# Altium schematic symbol library FD6288Q.SCHLIB: 1 symbol
Pins are listed as number, name and electrical type; pins without a type are passive.

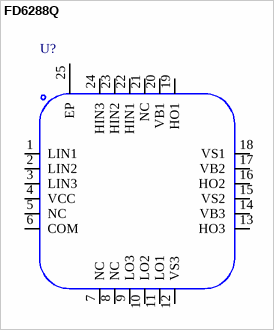
[diagram p0: symbol FD6288Q]

## FD6288Q
designator U?
Manufacturer: Fortior Tech(峰岹); Symbol: FD6288Q_C328453; Device: FD6288Q; Add into BOM: yes; LCSC Part Name: FD6288Q; Supplier Part: C328453; Manufacturer Part: FD6288Q; Supplier Footprint: QFN-24; JLCPCB Part Class: Extended Part; Datasheet: https://atta.szlcsc.com/upload/public/pdf/source/20181108/C328453_785547738DB9FC0123219FC22539EFAD.pdf; Supplier: LCSC; Convert to PCB: yes
footprint QFN-24_L4.0-W4.0-P0.50-BL-EP2.6
3D model QFN-24_L4.0-W4.0-H0.9-P0.50
pins: 1 LIN1, 2 LIN2, 3 LIN3, 4 VCC, 5 NC, 6 COM, 7 NC, 8 NC, 9 LO3, 10 LO2, 11 LO1, 12 VS3, 13 HO3, 14 VB3, 15 VS2, 16 HO2, 17 VB2, 18 VS1, 19 HO1, 20 VB1, 21 NC, 22 HIN1, 23 HIN2, 24 HIN3, 25 EP